# EAGLE library part VL6180X (library SENSOR)
VL6180X - Proximity and ambient light sensing (ALS) module Datasheet <http://www.st.com/st-web-ui/static/active/en/resource/technical/document/datasheet/DM00112632.pdf>
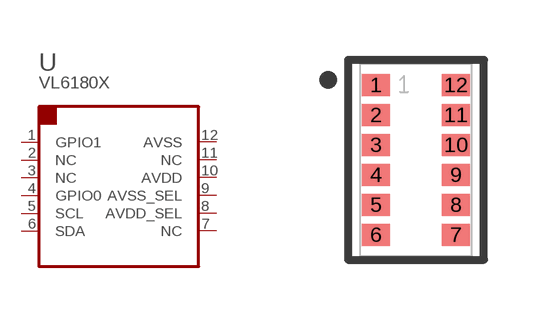
[diagram p3: symbol with the pads of VL6180X; footprint VL6180X]

Designator prefix U

## VL6180X (MFPN: VL6180XV0NR/1)  [VL6180X]
1  GPIO1
2  NC  nc
3  NC  nc
4  GPIO0
5  SCL
6  SDA
7  NC  nc
8  AVDD_SEL  pwr
9  AVSS_SEL  pwr
10  AVDD  pwr
11  NC  nc
12  AVSS  pwr

## Footprint VL6180X (pad centres in mm)
12LGA 4.8x2.4mm- VL6180X - Proximity and ambient light sensing (ALS) module Datasheet <http://www.st.com/st-web-ui/static/active/en/resource/technical/document/datasheet/DM00112632.pdf>
smd 0.7 x 0.55: 1 -1,1.875; 2 -1,1.125; 3 -1,0.375; 4 -1,-0.375; 5 -1,-1.125; 6 -1,-1.875; 7 1,-1.875; 8 1,-1.125; 9 1,-0.375; 10 1,0.375; 11 1,1.125; 12 1,1.875